# EAGLE library part TPS61022 (library bschulz)
TPS61022 - Boost converter with ultra-low input voltage Characteristics: Vin: 0.5V ~ 5.5V Vout: 2.2V ~ 5.5V Output Current (max): 8A IQ: 27μA (typ) Operating Temperature: -40°C to 85°C Digikey: 296-TPS61022RWUTCT-ND <https://www.digikey.com/en/products/detail/texas-instruments/TPS61022RWUT/10434643>
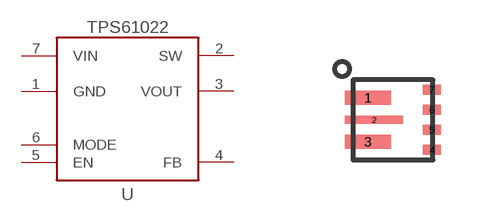
[diagram p147: symbol with the pads of RWU0007A; footprint RWU0007A]

Designator prefix U

## TPS61022 (DIGIKEY: 296-TPS61022RWUTCT-ND; MF: TI; MPN: TPS61022RWUT)  [RWU0007A]
1  GND  pwr
2  SW  pwr
3  VOUT  pwr
4  FB  in
5  EN  in
6  MODE  in
7  VIN  pwr

## Footprint RWU0007A (pad centres in mm)
RWU0007A - VQFN-HR, 7 pin Datasheet Ref <https://www.ti.com/lit/ds/symlink/tps61022.pdf?ts=1626296324970>
smd 1.15 x 0.35: 1 -0.625,0.55; 3 -0.625,-0.55
smd 1.45 x 0.2: 2 -0.475,0
smd 0.45 x 0.25: 4 0.975,-0.75; 5 0.975,-0.25; 6 0.975,0.25; 7 0.975,0.75